# EAGLE library part TDA8571J (library Audio-Power-amlifier V.2.0)
2x40W Stereo BTL Amplifier
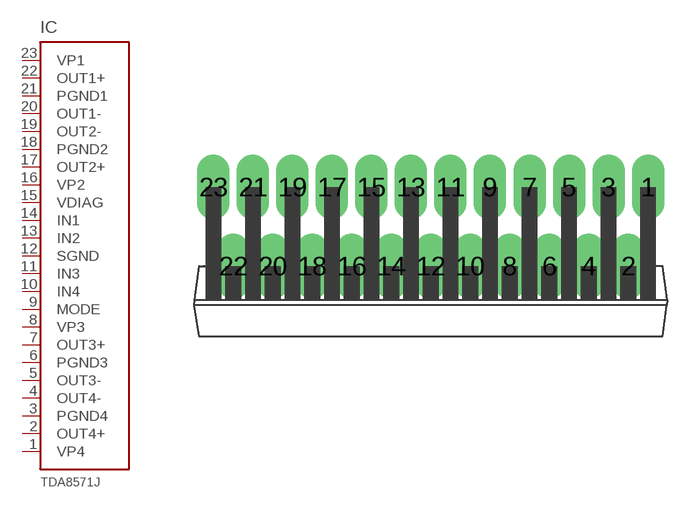
[diagram p17: symbol with the pads of SOT411-1; footprint SOT411-1]

Designator prefix IC

## TDA8571J  [SOT411-1]
1  VP4  pwr
2  OUT4+  out
3  PGND4  pwr
4  OUT4-  out
5  OUT3-  out
6  PGND3  pwr
7  OUT3+  out
8  VP3  pwr
9  MODE
10  IN4  in
11  IN3  in
12  SGND  pwr
13  IN2  in
14  IN1  in
15  VDIAG
16  VP2  pwr
17  OUT2+  out
18  PGND2  pwr
19  OUT2-  out
20  OUT1-  out
21  PGND1  pwr
22  OUT1+  out
23  VP1  pwr

## Footprint SOT411-1 (pad centres in mm)
drill 1.4 long: 1 13.97,5.08; 2 12.7,0; 3 11.43,5.08; 4 10.16,0; 5 8.89,5.08; 6 7.62,0; 7 6.35,5.08; 8 5.08,0; 9 3.81,5.08; 10 2.54,0; 11 1.27,5.08; 12 0,0; 13 -1.27,5.08; 14 -2.54,0; 15 -3.81,5.08; 16 -5.08,0; 17 -6.35,5.08; 18 -7.62,0; 19 -8.89,5.08; 20 -10.16,0; 21 -11.43,5.08; 22 -12.7,0; 23 -13.97,5.08